# Altium schematic symbol library MyLibraryV2.SchLib: 572 symbols (part 3 of 11)
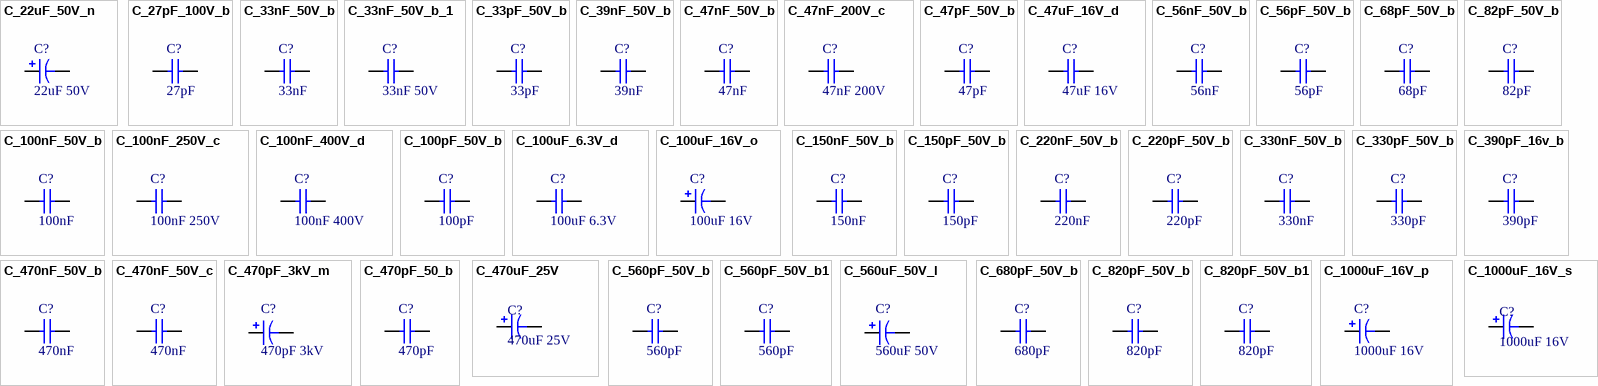
[diagram p18: symbols C_22uF_50V_n to C_1000uF_16V_s]

## C_680pF_50V_b
designator C?, comment 680pF
Capacitor SMD 0805; Manufacturer: Yageo; Manufacturer Part Number: CC0805JRNPO9BN681; Material: Ceramic; Tolerance: 5%; Dielectric: C0G; Voltage Rating: 50V; Temperature Coefficient: 30ppm/°C; Insulation Resistance: 100GR; Mounting Technology: Surface Mount; Case/Package: 0805; Pins: 2; Case Code (Imperial): 0805; Case Code (Metric): 2012; Min Operating Temperature: -55°C; Max Operating Temperature: 125°C; Voltage Rating (DC): 50V; Packaging: Tape and Reel; Package Quantity: 1; Termination: SMD/SMT; Voltage: 50V; Series: CC; Voltage Rating (AC): 50V; Length: 2mm; Width: 0.049inch; Height: 0.6mm; Depth: 1.25mm; Thickness: 0.024inch; Radiation Hardening: No; Reach SVHC Compliant: No; Lead Free: Lead Free; RoHS Compliant: Yes; Halogen Free: 5694HalogenFree; ComponentLink1URL: https://datasheet.ciiva.com/11786/0900766b80d84fbf-11786133.pdf?src-supplier=Rs; ComponentLink1Description: https://datasheet.ciiva.com/11786/0900766b80d84fbf-11786133.pdf?src-supplier=Rs; ComponentLink2URL: https://datasheet.ciiva.com/11587/upy-gp-np0-16v-to-50v-8-11587197.pdf?src-supplier=Avnet; ComponentLink2Description: https://datasheet.ciiva.com/11587/upy-gp-np0-16v-to-50v-8-11587197.pdf?src-supplier=Avnet; ComponentLink3URL: https://datasheet.ciiva.com/8033/1443161-8033958.pdf?src-supplier=Element14; ComponentLink3Description: https://datasheet.ciiva.com/8033/1443161-8033958.pdf?src-supplier=Element14; ComponentLink4URL: https://datasheet.ciiva.com/8033/1443161-8033960.pdf?src-supplier=Element14; ComponentLink4Description: https://datasheet.ciiva.com/8033/1443161-8033960.pdf?src-supplier=Element14; ComponentLink5URL: https://datasheet.ciiva.com/8033/1443161-8033965.pdf?src-supplier=Element14; ComponentLink5Description: https://datasheet.ciiva.com/8033/1443161-8033965.pdf?src-supplier=Element14; ComponentLink6URL: https://datasheet.ciiva.com/145/mlccorderingcode-145146.pdf?src-supplier=Digikey; ComponentLink6Description: https://datasheet.ciiva.com/145/mlccorderingcode-145146.pdf?src-supplier=Digikey; ComponentLink7URL: https://datasheet.ciiva.com/145/mlccorderingcode-145147.pdf?src-supplier=Digikey; ComponentLink7Description: https://datasheet.ciiva.com/145/mlccorderingcode-145147.pdf?src-supplier=Digikey; ComponentLink8URL: https://datasheet.ciiva.com/145/mlccorderingcode-145148.pdf?src-supplier=Digikey; ComponentLink8Description: https://datasheet.ciiva.com/145/mlccorderingcode-145148.pdf?src-supplier=Digikey; ComponentLink9URL: https://datasheet.ciiva.com/15165/getdatasheetpartid-38535-15165163.pdf?src-supplier=Verical; ComponentLink9Description: https://datasheet.ciiva.com/15165/getdatasheetpartid-38535-15165163.pdf?src-supplier=Verical; Supplier 1: Digikey; Supplier Part Number 1: 311-1121-1-ND; RoHS: Yes; Category: Ceramic Capacitors; Stock 1: 38892; Pricing 1: 1=0,13, 10=0,09, 50=0,0536, 100=0,0421, 500=0,03112, 1000=0,02576 (USD); Value: 680pF
footprint C_0805_2013_b (Chip Capacitor; Body 2.0 x 1.3 mm (LxW typ))
pins: 1, 2

## C_820pF_50V_b
designator C?, comment 820pF
Capacitor SMD 0805; Manufacturer: Yageo; Manufacturer Part Number: CC0805JRNPO9BN821; Dielectric Material: Ceramic; Tolerance: 5%; Dielectric: C0G; Voltage Rating: 50V; Insulation Resistance: 100GR; Mounting Technology: Surface Mount; Case/Package: 0805; Case Code (Imperial): 0805; Case Code (Metric): 2012; Weight: 0.000194oz; Min Operating Temperature: -55°C; Max Operating Temperature: 125°C; Voltage Rating (DC): 50V; Packaging: Tape and Reel; Termination: SMD/SMT; Series: CC; Length: 2mm; Width: 1.25mm; Height: 0.6mm; Depth: 1.25mm; Thickness: 0.028inch; Radiation Hardening: No; Lead Free: Lead Free; RoHS Compliant: Yes; Reach SVHC Compliant: Unknown; ComponentLink1URL: https://datasheet.ciiva.com/26862/getdatasheetpartid-137960-26862947.pdf?src-supplier=Verical; ComponentLink1Description: https://datasheet.ciiva.com/26862/getdatasheetpartid-137960-26862947.pdf?src-supplier=Verical; ComponentLink2URL: https://datasheet.ciiva.com/13208/upy-gp-np0-16v-to-50v-8-13208599.pdf?src-supplier=Mouser; ComponentLink2Description: https://datasheet.ciiva.com/13208/upy-gp-np0-16v-to-50v-8-13208599.pdf?src-supplier=Mouser; ComponentLink3URL: https://datasheet.ciiva.com/11586/upy-gp-np0-16v-to-50v-8-11586221.pdf?src-supplier=Avnet; ComponentLink3Description: https://datasheet.ciiva.com/11586/upy-gp-np0-16v-to-50v-8-11586221.pdf?src-supplier=Avnet; ComponentLink4URL: https://datasheet.ciiva.com/8033/1443161-8033962.pdf?src-supplier=Element14; ComponentLink4Description: https://datasheet.ciiva.com/8033/1443161-8033962.pdf?src-supplier=Element14; ComponentLink5URL: https://datasheet.ciiva.com/8033/1443161-8033964.pdf?src-supplier=Element14; ComponentLink5Description: https://datasheet.ciiva.com/8033/1443161-8033964.pdf?src-supplier=Element14; Supplier 1: Digikey; Supplier Part Number 1: 311-3382-1-ND; RoHS: Yes; Category: Ceramic Capacitors; Stock 1: 12492; Pricing 1: 1=0,12, 10=0,083, 50=0,0496, 100=0,039, 500=0,02884, 1000=0,02387 (USD); Value: 820pF
footprint C_0805_2013_b (Chip Capacitor; Body 2.0 x 1.3 mm (LxW typ))
pins: 1, 2

## C_820pF_50V_b1
designator C?, comment 820pF
Capacitor SMD 0805; Manufacturer: Yageo; Manufacturer Part Number: CC0805KRX7R9BB821; Material: Ceramic; Tolerance: 10%; Voltage Rating: 50V; Dielectric: X7R; Mounting Technology: Surface Mount; Case/Package: 0805; Case Code (Imperial): 0805; Case Code (Metric): 2012; Min Operating Temperature: -55°C; Max Operating Temperature: 125°C; Packaging: Tape and Reel; Package Quantity: 1; Voltage Rating (DC): 50V; Termination: SMD/SMT; Series: CC; Capacitor Type: Ceramic; Length: 2mm; Width: 0.049inch; Thickness: 0.024inch; Depth: 1.25mm; Radiation Hardening: No; Lead Free: Lead Free; Halogen Free: Halogen Free; RoHS Compliant: Yes; ComponentLink1URL: https://datasheet.ciiva.com/26862/getdatasheetpartid-403714-26862994.pdf?src-supplier=Verical; ComponentLink1Description: https://datasheet.ciiva.com/26862/getdatasheetpartid-403714-26862994.pdf?src-supplier=Verical; ComponentLink2URL: https://datasheet.ciiva.com/155/mlccorderingcode-155964.pdf?src-supplier=Digikey; ComponentLink2Description: https://datasheet.ciiva.com/155/mlccorderingcode-155964.pdf?src-supplier=Digikey; ComponentLink3URL: https://datasheet.ciiva.com/155/mlccorderingcode-155965.pdf?src-supplier=Digikey; ComponentLink3Description: https://datasheet.ciiva.com/155/mlccorderingcode-155965.pdf?src-supplier=Digikey; ComponentLink4URL: https://datasheet.ciiva.com/155/mlccorderingcode-155966.pdf?src-supplier=Digikey; ComponentLink4Description: https://datasheet.ciiva.com/155/mlccorderingcode-155966.pdf?src-supplier=Digikey; ComponentLink5URL: https://datasheet.ciiva.com/29241/445307-da-01-en-kerko-chip-0805-x7r-820pf-10proz-50vg-29241915.pdf?src-supplier=Conrad; ComponentLink5Description: https://datasheet.ciiva.com/29241/445307-da-01-en-kerko-chip-0805-x7r-820pf-10proz-50vg-29241915.pdf?src-supplier=Conrad; Supplier 1: Digikey; Supplier Part Number 1: 311-1194-1-ND; RoHS: Yes; Category: Ceramic Capacitors; Stock 1: 65043; Pricing 1: 1=0,13, 10=0,087, 50=0,0522, 100=0,0411, 500=0,03034, 1000=0,02512 (USD); Value: 820pF
footprint C_0805_2013_b (Chip Capacitor; Body 2.0 x 1.3 mm (LxW typ))
pins: 1, 2

## C_1000uF_16V_p
designator C?, comment 1000uF 16V
Capacitor SMD Elec F12; Manufacturer: KEMET; Manufacturer Part Number: A768MS108M1CLAE015; Supplier 1: Mouser; Supplier Part Number 1: 80-A768MS108M1CLAE15; RoHS: Yes; Category: Polymer Capacitors; Stock 1: 5839; Pricing 1: 1=0,91, 10=0,572, 50=0,572, 100=0,466, 1000=0,307, 10000=0,275 (USD); Value: 1000uF 16V
footprint C_SMD_F12 (10X11mm SMD)
pins: 1, 2

## C_1000uF_16V_s
designator C?, comment 1000uF 16V
Capacitor SMD Elec G13 (Modificar); Value: 1000uF 16V
footprint C_SMD_G13 (10X13.5mm SMD)
pins: 1, 2

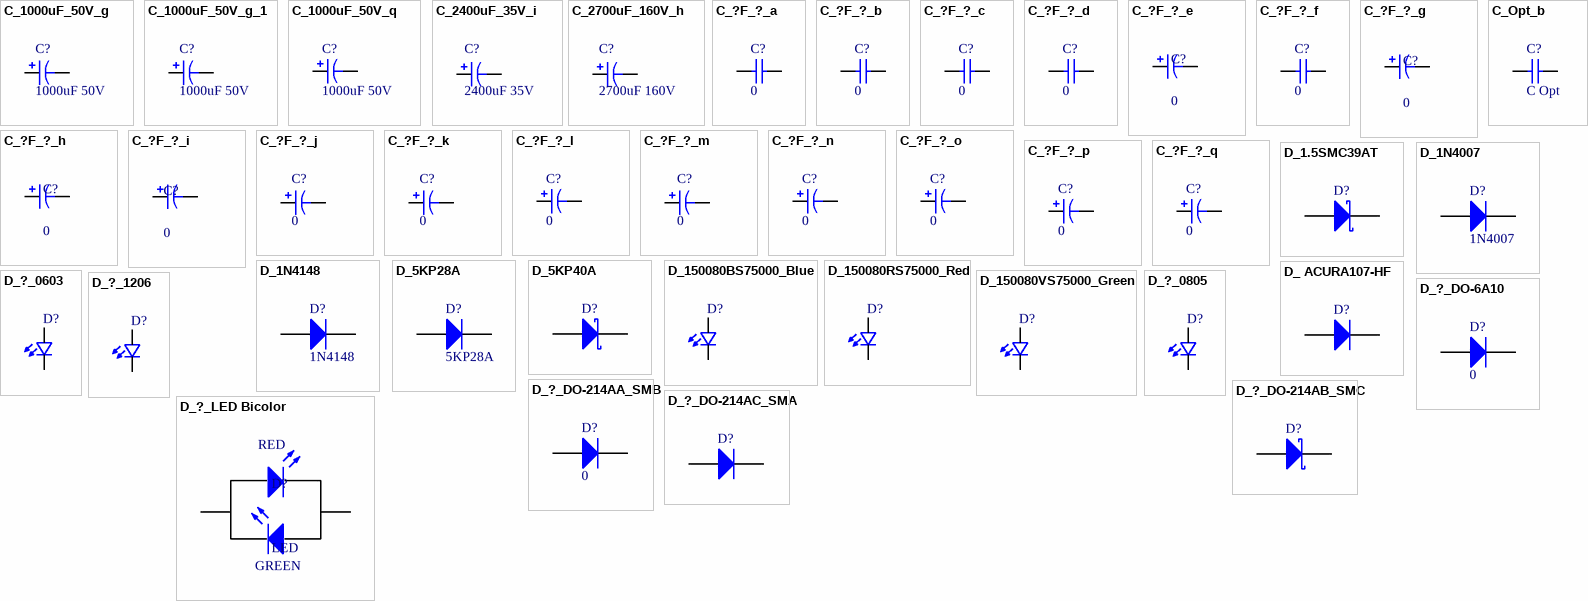
[diagram p2: symbols C_1000uF_50V_g to D_?_LED Bicolor]

## C_1000uF_50V_g
designator C?, comment 1000uF 50V
Capacitor SMD Elec 17x17; Manufacturer: Nichicon; Manufacturer Part Number: UCZ1H102MNJ1MS; Supplier 1: Digikey; Supplier Part Number 1: 493-UCZ1H102MNJ1MSCT-ND; RoHS: No; Category: LDO; Stock 1: 19; Pricing 1: 1=2,6, 10=1,996 (USD); Value: 1000uF 50V
footprint C_SMD_E_17x17
pins: 1, 2

## C_1000uF_50V_g_1
designator C?, comment 1000uF 50V
Capacitor SMD Elec 18x18; Manufacturer: Nichicon; Manufacturer Part Number: UCZ1H102MNJ1MS; Supplier 1: Digikey; Supplier Part Number 1: 493-UCZ1H102MNJ1MSCT-ND; RoHS: No; Category: LDO; Stock 1: 19; Pricing 1: 1=2,6, 10=1,996 (USD); Value: 1000uF 50V
footprint C_SMD_E_18x18
pins: 1, 2

## C_1000uF_50V_q
designator C?, comment 1000uF 50V
Capacitor SMD Elec J16; Manufacturer: Panasonic; Manufacturer Part Number: EEV-FK1H102M; Material: Aluminium; Ripple Current (AC): 1.61A; Tolerance: 20%; ESR (Equivalent Series Resistance): 73mR; Life (Hours): 5000Hour; Leakage Current: 3uA; Dissipation Factor: 10%; Mounting Technology: Surface Mount,PCB; Case/Package: Radial; Pins: 2; Dielectric Material: Aluminium; Min Operating Temperature: -55°C; Max Operating Temperature: 105°C; Packaging: Tape and Reel; Voltage Rating: 50V; Ripple Current: 1.61A; Impedance: 73mR; Voltage Rating (DC): 50V; Package Quantity: 125; Termination: SMD/SMT; Voltage: 50V; Series: FK; Construction: Cylindrical; Voltage Rating (AC): 50V; Diameter: 16mm; Length: 17mm; Width: 1.2mm; Height: 16.5mm; Ratings: AEC-Q200; Radiation Hardening: No; Reach SVHC Compliant: No; Lead Free: Lead Free; RoHS Compliant: Yes; ComponentLink1URL: https://datasheet.ciiva.com/2984/aba0000ce120-2984082.pdf?src-supplier=Avnet; ComponentLink1Description: https://datasheet.ciiva.com/2984/aba0000ce120-2984082.pdf?src-supplier=Avnet; ComponentLink2URL: https://datasheet.ciiva.com/2984/aba0000ce120-2984083.pdf?src-supplier=Avnet; ComponentLink2Description: https://datasheet.ciiva.com/2984/aba0000ce120-2984083.pdf?src-supplier=Avnet; ComponentLink3URL: https://datasheet.ciiva.com/43485/1676921-43485517.pdf?src-supplier=Farnell; ComponentLink3Description: https://datasheet.ciiva.com/43485/1676921-43485517.pdf?src-supplier=Farnell; ComponentLink4URL: https://datasheet.ciiva.com/14608/70258115-14608261.pdf?src-supplier=Allied+Electronics; ComponentLink4Description: https://datasheet.ciiva.com/14608/70258115-14608261.pdf?src-supplier=Allied+Electronics; ComponentLink5URL: https://datasheet.ciiva.com/14597/70258115-14597031.pdf?src-supplier=Allied+Electronics; ComponentLink5Description: https://datasheet.ciiva.com/14597/70258115-14597031.pdf?src-supplier=Allied+Electronics; Supplier 1: Digikey; Supplier Part Number 1: PCE3477CT-ND; RoHS: Yes; Category: Aluminum Electrolytic Capacitors; Stock 1: 103; Pricing 1: 1=1,81, 10=1,388, 50=1,2756 (USD); Value: 1000uF 50V
footprint C_SMD_J16 (16x16.5 SMD)
pins: 1, 2

## C_2400uF_35V_i
designator C?, comment 2400uF 35V
Capacitor SMD Elec 18x18; Manufacturer: Panasonic; Manufacturer Part Number: EEE-TP1V242M; Tolerance: 20%; ESR (Equivalent Series Resistance): 32mR; Mounting Technology: Surface Mount; Case/Package: Radial; Min Operating Temperature: -55°C; Max Operating Temperature: 125°C; Series: TP; Packaging: Cut Tape; Voltage Rating: 35V; Ratings: AEC-Q200; ComponentLink1URL: https://industrial.panasonic.com/cdbs/www-data/pdf/RDE0000/RDE0000C1255.pdf?src-supplier=Digikey; ComponentLink1Description: https://industrial.panasonic.com/cdbs/www-data/pdf/RDE0000/RDE0000C1255.pdf?src-supplier=Digikey; ComponentLink2URL: https://datasheet.octopart.com/EEETP1V242M-Panasonic-datasheet-150469835.pdf?src-supplier=TME; ComponentLink2Description: https://datasheet.octopart.com/EEETP1V242M-Panasonic-datasheet-150469835.pdf?src-supplier=TME; Supplier 1: Mouser; Supplier Part Number 1: 667-EEE-TP1V242M; RoHS: No; Category: Capacitors; Stock 1: 283; Pricing 1: 1=3,12, 10=2,44, 50=2,26, 100=1,67, 1000=1,41, 10000=1,36 (USD); Value: 2400uF 35V
footprint C_SMD_E_18x18
pins: 1, 2

## C_2700uF_160V_h
designator C?, comment 2700uF 160V
Capacitor SMD Elec 35x40; Manufacturer: United Chemi-Con; Manufacturer Part Number: EKMQ161VSN272MA40S; Dielectric Material: Aluminium; Tolerance: 20%; Ripple Current: 3.1A; Test Frequency: 120Hz; Dissipation Factor: 0.15%; Mounting Technology: Through Hole; Case/Package: Radial; Pins: 2; Min Operating Temperature: -25°C; Max Operating Temperature: 105°C; Voltage Rating: 160V; Package Quantity: 200; Packaging: Bulk; Voltage Rating (DC): 160V; Termination: Snap in; Series: KMQ-LU; Diameter: 35mm; Length: 40mm; Height: 40mm; Lead Pitch: 10mm; Height - Seated (Max): 1.575inch; Lead Free: Lead Free; RoHS Compliant: Yes; ComponentLink1URL: http://www.onlinecomponents.com/datasheet/ekmq161vsn272ma40s.aspx?p=12708319&src-supplier=Onlinecomponents.com; ComponentLink1Description: http://www.onlinecomponents.com/datasheet/ekmq161vsn272ma40s.aspx?p=12708319&src-supplier=Onlinecomponents.com; ComponentLink2URL: http://www.mouser.com/ds/2/420/-346755.pdf?src-supplier=Mouser; ComponentLink2Description: http://www.mouser.com/ds/2/420/-346755.pdf?src-supplier=Mouser; ComponentLink3URL: http://www.chemi-con.co.jp/cgi-bin/CAT_DB/SEARCH/cat_db_al.cgi?e=e&j=p&pdfname=kmqlug&src-supplier=Digikey; ComponentLink3Description: http://www.chemi-con.co.jp/cgi-bin/CAT_DB/SEARCH/cat_db_al.cgi?e=e&j=p&pdfname=kmqlug&src-supplier=Digikey; Supplier 1: Digikey; Supplier Part Number 1: 565-2947-ND; RoHS: Yes; Category: Aluminum Electrolytic Capacitors; Stock 1: 492; Pricing 1: 1=5,71, 10=4,908, 200=3,675, 1000=2,96738 (USD); Value: 2700uF 160V
footprint C_SMD_E_35x40-10 (Capacitor, Electrolytic, Radial, Snap-In Pins; Body 35 x 40 mm (Dia.xH typ); Pin Spacing 10 mm (typ))
pins: 1, 2

## C_?F_?_a
designator C?, comment 0
(Generico) Capacitor SMD 0603; Value: 0
footprint C_0603_1608_a (Chip Capacitor; Body 1.6 x 0.8 mm (LxW typ))
pins: 1, 2

## C_?F_?_b
designator C?, comment 0
(Generico) Capacitor SMD 0805; Value: 0
footprint C_0805_2013_b (Chip Capacitor; Body 2.0 x 1.3 mm (LxW typ))
pins: 1, 2

## C_?F_?_c
designator C?, comment 0
(Generico) Capacitor SMD 1206; Value: 0
footprint C_1206_3216_A
pins: 1, 2

## C_?F_?_d
designator C?, comment 0
(Generico) Capacitor SMD 1210; Value: 0
footprint C_1210_3225_A (Chip Capacitor, Body 3.2x2.5mm, IPC High Density)
pins: 1, 2

## C_?F_?_e
designator C?, comment 0
(Generico) Capacitor polarizado; Value: 0
pins: 1, 2

## C_?F_?_f
designator C?, comment 0
(Generico) Capacitor SMD 1411; Value: 0
footprint C_1411_3528_a
pins: 1, 2

## C_?F_?_g
designator C?, comment 0
(Generico) Capacitor SMD Elec 17x17; Value: 0
footprint C_SMD_E_17x17
pins: 1, 2

## C_?F_?_h
designator C?, comment 0
(Generico) Capacitor SMD Elec 35x40; Value: 0
footprint C_SMD_E_35x40-10 (Capacitor, Electrolytic, Radial, Snap-In Pins; Body 35 x 40 mm (Dia.xH typ); Pin Spacing 10 mm (typ))
pins: 1, 2

## C_?F_?_i
designator C?, comment 0
(Generico) Capacitor SMD Elec 18x18; Value: 0
footprint C_SMD_E_18x18
pins: 1, 2

## C_?F_?_j
designator C?, comment 0
(Generico) Capacitor THT Elec  6.3X11; Value: 0
footprint C_THT_E_6.3x11-2.5
pins: 1, 2

## C_?F_?_k
designator C?, comment 0
(Generico) Capacitor THT Elec  5X11; Value: 0
footprint C_THT_E_5X11-2
pins: 1, 2

## C_?F_?_l
designator C?, comment 0
(Generico) Capacitor THT Elec  10x25; Value: 0
footprint C_THT_E_10x25-5
pins: 1, 2

## C_?F_?_m
designator C?, comment 0
(Generico) Capacitor THT Cera 6-7.5; Value: 0
footprint C_THT_CER_6-7.5 (Radial Cap, Thru-Hole; 2 Leads; 0.3 in Pin Spacing)
pins: 1, 2

## C_?F_?_n
designator C?, comment 0
(Generico) Capacitor SMD Elec 6.6x5.5; Value: 0
footprint C_SMD_E_6.6x5.5
pins: 1, 2

## C_?F_?_o
designator C?, comment 0
(Generico) Capacitor SMD Elec F3R; Value: 0
footprint C_SMD_F3R
pins: 1, 2

## C_?F_?_p
designator C?, comment 0
(Generico) Capacitor SMD Elec F12; Value: 0
footprint C_SMD_F12 (10X11mm SMD)
pins: 1, 2

## C_?F_?_q
designator C?, comment 0
(Generico) Capacitor SMD Elec J16; Value: 0
footprint C_SMD_J16 (16x16.5 SMD)
pins: 1, 2

## C_Opt_b
designator C?, comment C Opt
Capacitor SMD 0805 opcional; Value: C Opt
footprint C_0805_2013_b (Chip Capacitor; Body 2.0 x 1.3 mm (LxW typ))
pins: 1, 2

## D_1.5SMC39AT
designator D?, comment 1.5SMC39AT  (value not drawn)
(Modificar) Diode SMD DO-214AB TVS; Value: 1.5SMC39AT
footprint D_DO-214AB_SMC
pins: 1 K, 2 A

## D_1N4007
designator D?, comment 1N4007
(Modificar) Diode SMD DO-214AA; Value: 1N4007
footprint D_DO-214AC_SMA
pins: 1 K, 2 A

## D_1N4148
designator D?, comment 1N4148
Diode SMD SOD-123; Manufacturer: Comchip; Manufacturer Part Number: 1N4148W-HF; Supplier 1: Digikey; Supplier Part Number 1: 641-1N4148W-HFCT-ND; RoHS: Yes; Category: Uncategorized; Stock 1: 78044; Pricing 1: 1=0,17, 10=0,118, 100=0,0639, 500=0,05018, 1000=0,03484 (USD); Value: 1N4148
footprint D_SOD-123 (SOD-123; 2 Leads; Body 2.7 x 1.6 mm, (LxW))
pins: 1 K, 2 A

## D_5KP28A
designator D?, comment 5KP28A
Diode THT DO-6A10 TVS; Manufacturer: Vishay Semiconductors; Manufacturer Part Number: 5KP28A-E3/54; Direction: Unidirectional; Operating Supply Voltage: 28V; Max Surge Current: 600A; Breakdown Voltage: 31.1V; Clamping Voltage: 45.4V; Peak Pulse Power: 5kW; Max Breakdown Voltage: 34.4V; Max Reverse Leakage Current: 2uA; Peak Pulse Current: 110A; ESD Protection: No; Diode Type: ZENER; Number of Unidirectional Channels: 1; Mounting Technology: Through Hole; Case/Package: P; Pins: 600; Contact Plating: Tin,Matte; Min Operating Temperature: -55°C; Max Operating Temperature: 175°C; Package Quantity: 800; Packaging: Tape and Reel; Polarity: Unidirectional; Reverse Standoff Voltage: 28V; Min Breakdown Voltage: 31.1V; Power Dissipation: 5kW; Max Power Dissipation: 5kW; Series: TransZorb®; Clamping Voltage-Max: 45.4V; Power Line Protection: No; Lead Free: Lead Free; RoHS Compliant: Yes; ComponentLink1URL: http://components.arrow.com/part/dataview/42811114S9419545N5680?src-supplier=Arrow+Electronics; ComponentLink1Description: http://components.arrow.com/part/dataview/42811114S9419545N5680?src-supplier=Arrow+Electronics; ComponentLink2URL: http://www.alliedelec.com/m/d/570e2ef97809668344178acafc4efb18.pdf?src-supplier=Allied+Electronics; ComponentLink2Description: http://www.alliedelec.com/m/d/570e2ef97809668344178acafc4efb18.pdf?src-supplier=Allied+Electronics; ComponentLink3URL: http://www.mouser.com/ds/2/427/88308-240274.pdf?src-supplier=Mouser; ComponentLink3Description: http://www.mouser.com/ds/2/427/88308-240274.pdf?src-supplier=Mouser; ComponentLink4URL: http://www.vishay.com/docs/88308/5kp.pdf?src-supplier=Future+Electronics; ComponentLink4Description: http://www.vishay.com/docs/88308/5kp.pdf?src-supplier=Future+Electronics; ComponentLink5URL: https://www.vishay.com/docs/88308/88308.pdf?src-supplier=Digikey; ComponentLink5Description: https://www.vishay.com/docs/88308/88308.pdf?src-supplier=Digikey; ComponentLink6URL: http://www.vishay.com/docs/88308/5kp.pdf?src-supplier=Digikey; ComponentLink6Description: http://www.vishay.com/docs/88308/5kp.pdf?src-supplier=Digikey; ComponentLink7URL: http://www.vishay.com/docs/88308/88308.pdf?src-supplier=Avnet; ComponentLink7Description: http://www.vishay.com/docs/88308/88308.pdf?src-supplier=Avnet; Supplier 1: Mouser; Supplier Part Number 1: 625-5KP28A-E3; RoHS: Yes; Category: TVS Diodes; Stock 1: 2088; Pricing 1: 1=2,4, 10=2,1, 50=2,1, 100=1,68, 1000=1,16, 10000=1,05 (USD); Value: 5KP28A
footprint D_DO-6A10
pins: 1 K, 2 A

## D_5KP40A
designator D?, comment 5KP40A  (value not drawn)
(Modificar) Diode THT DO-6A10 TVS; Value: 5KP40A
footprint D_DO-6A10
pins: 1 K, 2 A

## D_150080BS75000_Blue
designator D?, comment 150080BS75000  (value not drawn)
Diode SMD 0805 LED; Manufacturer: Wurth Electronics; Color: Blue; Lens Color: Colorless; Luminous Intensity: 145mcd; Viewing Angle: 140°; Forward Voltage: 3.2V; Wavelength: 470nm; Lens Style: Clear,Flat,Rectangular; Forward Current: 30mA; Test Current: 20mA; Lens Transparency: Clear; Reverse Voltage: 5V; Power Dissipation: 105mW; Lens Size: 1.25mm; Mounting Technology: Surface Mount; Case/Package: 0805; Case Code (Metric): 2012; Case Code (Imperial): 0805; Min Operating Temperature: -40°C; Max Operating Temperature: 85°C; Series: WL-SMCW; Package Quantity: 1; Packaging: Cut Tape; Dominant Wavelength: 470nm; Max Reverse Voltage (DC): 5V; Length: 2mm; Width: 1.25mm; Height: 0.8mm; RoHS Compliant: Yes; Reach SVHC Compliant: Unknown; Lead Free: Lead Free; ComponentLink1URL: https://datasheet.ciiva.com/22656/1740214-22656954.pdf?src-supplier=Element14; ComponentLink1Description: https://datasheet.ciiva.com/22656/1740214-22656954.pdf?src-supplier=Element14; ComponentLink2URL: https://datasheet.ciiva.com/23843/150080bs75000-23843251.pdf?src-supplier=Newark; ComponentLink2Description: https://datasheet.ciiva.com/23843/150080bs75000-23843251.pdf?src-supplier=Newark; ComponentLink3URL: https://datasheet.ciiva.com/29279/759433-da-01-en-chipled-0805-w-kl-blau-150080bs75000-29279203.pdf?src-supplier=Conrad; ComponentLink3Description: https://datasheet.ciiva.com/29279/759433-da-01-en-chipled-0805-w-kl-blau-150080bs75000-29279203.pdf?src-supplier=Conrad; ComponentLink4URL: https://datasheet.ciiva.com/29562/150080bs75000-29562923.pdf?src-supplier=Digikey; ComponentLink4Description: https://datasheet.ciiva.com/29562/150080bs75000-29562923.pdf?src-supplier=Digikey; ComponentLink5URL: https://datasheet.ciiva.com/29562/150080bs75000-29562922.pdf?src-supplier=Digikey; ComponentLink5Description: https://datasheet.ciiva.com/29562/150080bs75000-29562922.pdf?src-supplier=Digikey; Supplier 1: Digikey; Supplier Part Number 1: 732-4982-1-ND; Manufacturer Part Number: 150080BS75000; RoHS: Yes; Category: LEDs; Stock 1: 208181; Pricing 1: 1=0,19, 50=0,176, 100=0,151, 500=0,131 (USD); Value: 150080BS75000
footprint D_LED_0805_2013 (Chip Capacitor; Body 2.0 x 1.3 mm (LxW typ))
pins: 1 K2, 2 A2

## D_150080RS75000_Red
designator D?, comment 150080RS75000  (value not drawn)
Diode SMD 0805 LED; Manufacturer: Wurth Electronics; Color: Red; Lens Color: Colorless; Luminous Intensity: 150mcd; Viewing Angle: 140°; Forward Voltage: 2V; Wavelength: 625nm; Lens Style: Clear,Flat,Rectangular; Forward Current: 30mA; Test Current: 20mA; Lens Transparency: Clear; Max Reverse Voltage (DC): 5V; Power Dissipation: 72mW; Lens Size: 1.25mm; Mounting Technology: Surface Mount; Case/Package: 0805; Case Code (Metric): 2012; Case Code (Imperial): 0805; Min Operating Temperature: -40°C; Max Operating Temperature: 85°C; Package Quantity: 1; Packaging: Cut Tape; Dominant Wavelength: 625nm; Series: WL-SMCW; Length: 2mm; Width: 1.25mm; Height: 0.8mm; RoHS Compliant: Yes; Reach SVHC Compliant: Unknown; ComponentLink1URL: https://datasheet.ciiva.com/22656/150080rs75000-22656961.pdf?src-supplier=Element14; ComponentLink1Description: https://datasheet.ciiva.com/22656/150080rs75000-22656961.pdf?src-supplier=Element14; ComponentLink2URL: https://datasheet.ciiva.com/29279/759435-da-01-en-chipled-0805-w-kl-rot-150080rs75000-29279032.pdf?src-supplier=Conrad; ComponentLink2Description: https://datasheet.ciiva.com/29279/759435-da-01-en-chipled-0805-w-kl-rot-150080rs75000-29279032.pdf?src-supplier=Conrad; Supplier 1: Digikey; Supplier Part Number 1: 732-4984-1-ND; Manufacturer Part Number: 150080RS75000; RoHS: Yes; Category: LEDs; Stock 1: 53637; Pricing 1: 1=0,19, 50=0,176, 100=0,151, 500=0,131 (USD); Value: 150080RS75000
footprint D_LED_0805_2013 (Chip Capacitor; Body 2.0 x 1.3 mm (LxW typ))
pins: 1 K2, 2 A2

## D_150080VS75000_Green
designator D?, comment 150080VS75000  (value not drawn)
Diode SMD 0805 LED; Manufacturer: Wurth Electronics; Color: Green; Lens Color: Colorless; Luminous Intensity: 40mcd; Forward Current: 30mA; Forward Voltage: 2V; Viewing Angle: 140°; Wavelength: 570nm; Lens Style: Clear,Flat,Rectangular; Test Current: 20mA; Lens Transparency: Clear; Max Reverse Voltage (DC): 5V; Power Dissipation: 72mW; Lens Size: 1.25mm; Mounting Technology: Surface Mount; Case/Package: 0805; Case Code (Metric): 2012; Case Code (Imperial): 0805; Min Operating Temperature: -40°C; Max Operating Temperature: 85°C; Package Quantity: 1; Packaging: Cut Tape; Dominant Wavelength: 570nm; Series: WL-SMCW; Reverse Voltage: 5V; Length: 2mm; Width: 1.25mm; Height: 0.8mm; RoHS Compliant: Yes; Reach SVHC Compliant: Unknown; ComponentLink1URL: https://datasheet.ciiva.com/22656/150080vs75000-22656966.pdf?src-supplier=Element14; ComponentLink1Description: https://datasheet.ciiva.com/22656/150080vs75000-22656966.pdf?src-supplier=Element14; ComponentLink2URL: https://datasheet.ciiva.com/29279/759437-da-01-en-chipled-0805-w-kl-h-gruen-150080vs7500-29279047.pdf?src-supplier=Conrad; ComponentLink2Description: https://datasheet.ciiva.com/29279/759437-da-01-en-chipled-0805-w-kl-h-gruen-150080vs7500-29279047.pdf?src-supplier=Conrad; ComponentLink3URL: https://datasheet.ciiva.com/29563/150080vs75000-29563018.pdf?src-supplier=Digikey; ComponentLink3Description: https://datasheet.ciiva.com/29563/150080vs75000-29563018.pdf?src-supplier=Digikey; Supplier 1: Digikey; Supplier Part Number 1: 732-4986-1-ND; Manufacturer Part Number: 150080VS75000; RoHS: Yes; Category: LEDs; Stock 1: 21097; Pricing 1: 1=0,19, 50=0,176, 100=0,151, 500=0,131 (USD); Value: 150080VS75000
footprint D_LED_0805_2013 (Chip Capacitor; Body 2.0 x 1.3 mm (LxW typ))
pins: 1 K2, 2 A2

## D_ ACURA107-HF
designator D?, comment ACURA107-HF  (value not drawn)
Diode SMD DO-214AC_SMA; Manufacturer: Comchip; Origin: CHINA; Max Reverse Voltage (DC): 1kV; Average Rectified Current: 1A; Reverse Recovery Time: 75ns; Published: 8-Jun-2000; LatestRevisionDate: 17-Jul-2002; LatestRevisionNote: Re-released for DXP Platform.; PackageVersion: Sep-1996; PackageReference: SMC; Publisher: Altium Limited; PackageDescription: DO-214-AB/SMC; 2 C-Bend Leads; Body 7.9 x 5.9 mm, inc. leads (LxW); Code_JEDEC: DO-214-AB; Supplier 1: Digi-Key; Supplier Part Number 1: ES1ME-TPMSCT-ND; Mounting Technology: Surface Mount; Packaging: Cut Tape; Series: Automotive, AEC-Q101; RoHS Compliant: Yes; ComponentLink1URL: http://www.comchiptech.com/admin/files/product/ACURA107-HF%20RevA970010.pdf?src-supplier=Digikey; ComponentLink1Description: http://www.comchiptech.com/admin/files/product/ACURA107-HF%20RevA970010.pdf?src-supplier=Digikey; ComponentLink2URL: http://www.comchiptech.com/cms/UserFiles/ACURA107-HF%20RevA970010.pdf?src-supplier=Digikey; ComponentLink2Description: http://www.comchiptech.com/cms/UserFiles/ACURA107-HF%20RevA970010.pdf?src-supplier=Digikey; Supplier 2: Digikey; Supplier Part Number 2: 641-1884-1-ND; Manufacturer Part Number: ACURA107-HF; RoHS: Yes; Stock 2: 10252; Pricing 2: 1=0,39, 10=0,305, 100=0,1827, 500=0,16918, 1000=0,11504, 2000=0,10591 (USD); Value: ACURA107-HF
footprint D_DO-214AC_SMA
pins: 1 K, 2 A

## D_?_0603
designator D?, comment LED SMD  (value not drawn)
(Generico) Diode SMD 0603 LED; Value: LED SMD
footprint D_LED_0603_1608 (Chip Led SMD; Body 11.6x0.8x0.55mm; 130°; 2÷2.4V; 20mA)
pins: 1 K2, 2 A2

## D_?_0805
designator D?, comment LED SMD  (value not drawn)
(Generico) Diode SMD 0805 LED; Value: LED SMD
footprint D_LED_0805_2013 (Chip Capacitor; Body 2.0 x 1.3 mm (LxW typ))
pins: 1 K2, 2 A2

## D_?_1206
designator D?, comment LED SMD  (value not drawn)
(Generico) Diode SMD 1206 LED; Value: LED SMD
footprint D_LED_1206_3216 (Chip Capacitor; Body 2.0 x 1.3 mm (LxW typ))
pins: 1 K2, 2 A2

## D_?_DO-6A10
designator D?, comment 0
(Generico )Diode SMD DO-6A10; Value: 0
footprint D_DO-6A10
pins: 1 K, 2 A

## D_?_DO-214AA_SMB
designator D?, comment 0
(Generico) Diode SMD DO-214AA_SMB; Value: 0
footprint D_DO-214AA_SMB
pins: 1 K, 2 A

## D_?_DO-214AB_SMC
designator D?, comment 0  (value not drawn)
(Generico) Diode SMD DO-214AB_SMC; Value: 0
footprint D_DO-214AB_SMC
pins: 1 K, 2 A

## D_?_DO-214AC_SMA
designator D?, comment ES1ME  (value not drawn)
(Generico) Diode SMD DO-214AC_SMA; Origin: CHINA; Published: 8-Jun-2000; LatestRevisionDate: 17-Jul-2002; LatestRevisionNote: Re-released for DXP Platform.; PackageVersion: Sep-1996; PackageReference: SMC; Publisher: Altium Limited; PackageDescription: DO-214-AB/SMC; 2 C-Bend Leads; Body 7.9 x 5.9 mm, inc. leads (LxW); Code_JEDEC: DO-214-AB; Supplier 1: Digi-Key; Supplier Part Number 1: ES1ME-TPMSCT-ND; Value: ES1ME
footprint D_DO-214AC_SMA
pins: 1 K, 2 A

## D_?_LED Bicolor
designator D?, comment LED
(Generico) Diode THT LED Bicolor 5mm; Value: LED
footprint D_LED-Bicolor5mm (LED-Bicolor 5mm)
pins: 1 K, 2 A
text: RED; GREEN

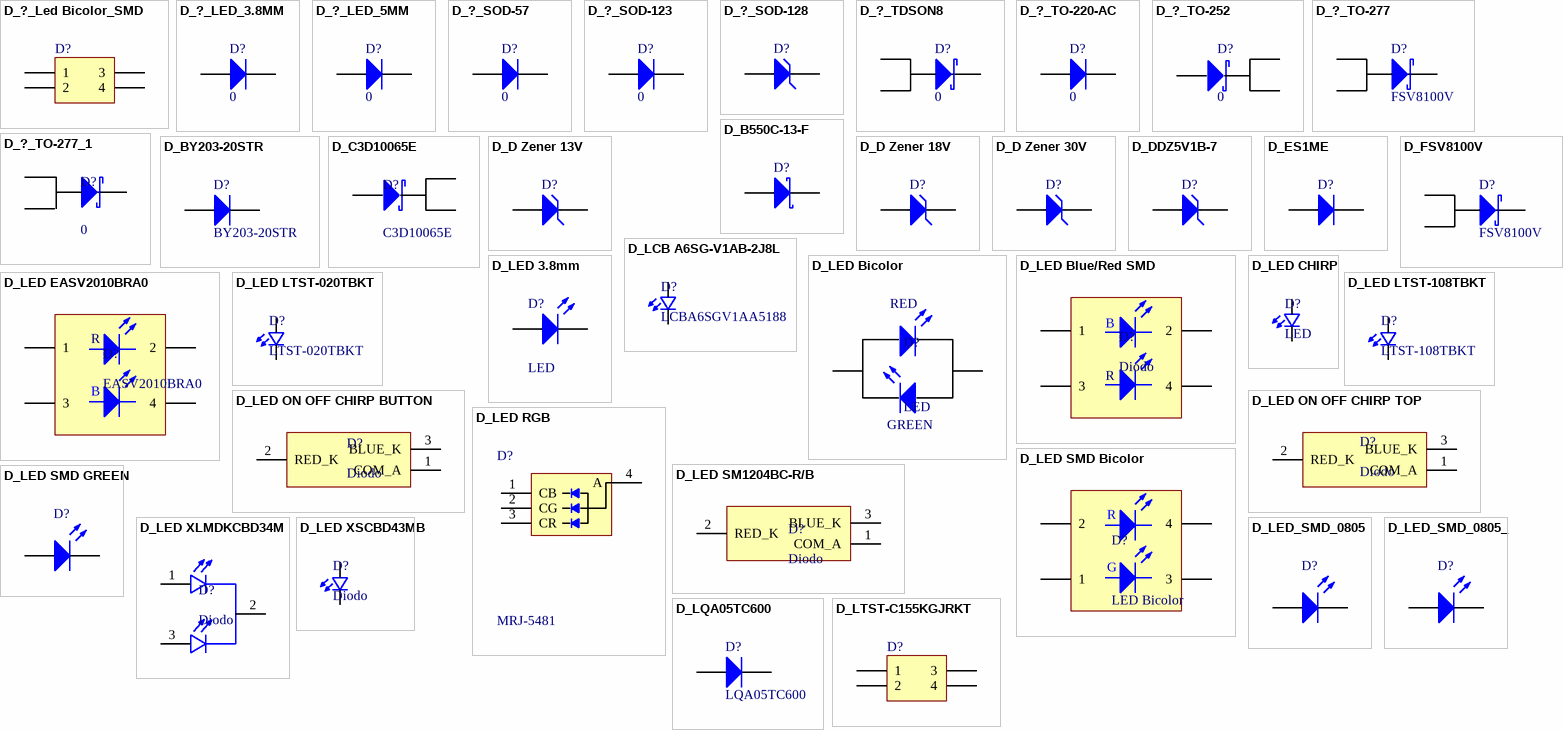
[diagram p3: symbols D_?_Led Bicolor_SMD to D_LTST-C155KGJRKT]

## D_?_Led Bicolor_SMD
designator D?, comment Led Bicolor SMD  (value not drawn)
(Generico) Diode SMD Led Bicolor SMD; Origin: TAIWAN; LatestRevisionDate: 17-Jul-2002; LatestRevisionNote: Re-released for DXP Platform.; Publisher: Altium Limited; Supplier 1: Mouser; Supplier Part Number 1: 859-LTST-C155KGJRKT; Value: Led Bicolor SMD
footprint D_LED_BIC
pins: 1, 2, 3, 4

## D_?_LED_3.8MM
designator D?, comment 0
(Generico) Diode THT LED 3.8MM; Value: 0
footprint D_LED-3.8MM
pins: 1 K, 2 A

## D_?_LED_5MM
designator D?, comment 0
(Generico) Diode THT LED 5MM; Value: 0
footprint D_LED-5MM
pins: 1 K, 2 A

## D_?_SOD-57
designator D?, comment 0
(Generico) Diode SMD SOD-57; Value: 0
footprint D_SOD-57
pins: 1 K, 2 A

## D_?_SOD-123
designator D?, comment 0
(Generico) Diode SMD SOD-123; Value: 0
footprint D_SOD-123 (SOD-123; 2 Leads; Body 2.7 x 1.6 mm, (LxW))
pins: 1 K, 2 A

## D_?_SOD-128
designator D?, comment 0  (value not drawn)
(Generico) Diode SMD SOD-128; Value: 0
footprint D_SOD-128
pins: 1 K, 2 A

## D_?_TDSON8
designator D?, comment 0
(Generico) Diode SMD TDSON8; Value: 0
footprint D_TDSON 8
pins: 1 A, 2 K, 3 A

## D_?_TO-220-AC
designator D?, comment 0
(Generico) Diode SMD TO-220-AC; Value: 0
footprint D_TO-220-2-TO-220AC
pins: 1 K, 2 A

## D_?_TO-252
designator D?, comment 0
(Generico) Diode SMD TO-252; Value: 0
footprint D_TO-252
pins: 1 K "Anode", 2 K "Anode", 3 A "Cathode"

## D_?_TO-277
designator D?, comment FSV8100V
(Generico) Diode SMD TO-277 Zener; Value: FSV8100V
footprint D_TO-277_bigger (Diodo)
pins: 1 A, 2 A, 3 K

## D_?_TO-277_1
designator D?, comment 0
(Generico) Diode SMD TO-277; Value: 0
footprint D_TO-277 (Diodo)
pins: 1 A "Anode", 2 A "Anode", 3 K "Cathode"

## D_B550C-13-F
designator D?, comment B550C-13-F  (value not drawn)
Diode SMD DO-214AB_SMC; Manufacturer: Diodes; Max Reverse Current: 500uA; Forward Current: 5A; Max Repetitive Reverse Voltage (Vrrm): 50V; Peak Non-Repetitive Surge Current: 100A; Polarity: Standard; Forward Voltage: 700mV; Mounting Technology: Surface Mount; Case/Package: SMC; Pins: 2; Weight: 0.007408oz; Contact Plating: Tin,Matte; Min Operating Temperature: -55°C; Max Operating Temperature: 125°C; Package Quantity: 3000; Packaging: Tape and Reel; Current Rating: 5A; Output Current: 5A; Series: -; Average Rectified Current: 5A; Max Forward Surge Current (Ifsm): 100A; Termination: SMD/SMT; Voltage Rating (DC): 50V; Max Reverse Voltage (DC): 50V; Length: 7.11mm; Width: 6.22mm; Height: 2.5mm; Radiation Hardening: No; Lead Free: Lead Free; RoHS Compliant: Yes; Reach SVHC Compliant: No; ComponentLink1URL: https://datasheet.ciiva.com/30479/0900766b8104afce-30479368.pdf?src-supplier=Rs; ComponentLink1Description: https://datasheet.ciiva.com/30479/0900766b8104afce-30479368.pdf?src-supplier=Rs; ComponentLink2URL: https://datasheet.ciiva.com/26949/getdatasheetpartid-307767-26949364.pdf?src-supplier=Verical; ComponentLink2Description: https://datasheet.ciiva.com/26949/getdatasheetpartid-307767-26949364.pdf?src-supplier=Verical; ComponentLink3URL: https://datasheet.ciiva.com/39121/1538953-39121533.pdf?src-supplier=Jameco; ComponentLink3Description: https://datasheet.ciiva.com/39121/1538953-39121533.pdf?src-supplier=Jameco; ComponentLink4URL: https://datasheet.ciiva.com/8303/ds13012-8303115.pdf?src-supplier=Avnet; ComponentLink4Description: https://datasheet.ciiva.com/8303/ds13012-8303115.pdf?src-supplier=Avnet; ComponentLink5URL: https://datasheet.ciiva.com/8303/ds13012-8303191.pdf?src-supplier=Avnet; ComponentLink5Description: https://datasheet.ciiva.com/8303/ds13012-8303191.pdf?src-supplier=Avnet; ComponentLink6URL: https://datasheet.ciiva.com/1177/ds13012-1177531.pdf?src-supplier=Element14; ComponentLink6Description: https://datasheet.ciiva.com/1177/ds13012-1177531.pdf?src-supplier=Element14; Supplier 1: Digikey; Supplier Part Number 1: B550C-FDICT-ND; Manufacturer Part Number: B550C-13-F; RoHS: Yes; Category: Rectifier Diodes; Stock 1: 65197; Pricing 1: 1=0,56, 10=0,476, 100=0,3309, 500=0,25834, 1000=0,20998 (USD); Value: B550C-13-F
footprint D_DO-214AB_SMC
pins: 1 K, 2 A

## D_BY203-20STR
designator D?, comment BY203-20STR
Diode SMD SOD-57; Manufacturer: Vishay Semiconductors; Forward Current: 250mA; Reverse Recovery Time: 300ns; Max Repetitive Reverse Voltage (Vrrm): 2kV; Peak Non-Repetitive Surge Current: 20A; Current Rating: 250A; Mounting Technology: Through Hole; Min Operating Temperature: -55°C; Max Operating Temperature: 150°C; Packaging: Tape and Reel; Radiation Hardening: No; Lead Free: Lead Free; RoHS Compliant: Yes; ComponentLink1URL: https://datasheet.ciiva.com/13949/by20312s-13949594.pdf?src-supplier=Digikey; ComponentLink1Description: https://datasheet.ciiva.com/13949/by20312s-13949594.pdf?src-supplier=Digikey; ComponentLink2URL: https://datasheet.ciiva.com/13949/by20312s-13949596.pdf?src-supplier=Digikey; ComponentLink2Description: https://datasheet.ciiva.com/13949/by20312s-13949596.pdf?src-supplier=Digikey; Supplier 1: Mouser; Supplier Part Number 1: 78-BY203-20S; Manufacturer Part Number: BY203-20STR; RoHS: Yes; Category: Rectifier Diodes; Stock 1: 2718; Pricing 1: 1=0,82, 10=0,709, 50=0,709, 100=0,491, 1000=0,311, 10000=0,272 (USD); Value: BY203-20STR
footprint D_SOD-57_3D
pins: 1 K, 2 A

## D_C3D10065E
designator D?, comment C3D10065E
Diode SMD TO-252 SCHOTTKY; Manufacturer: Cree; Max Reverse Voltage (DC): 650V; Average Rectified Current: 32A; Reverse Recovery Time: 0ns; Mounting Technology: Surface Mount; Case/Package: TO-252-3; Pins: 3; Series: Z-Rec®; RoHS Compliant: Yes; ComponentLink1URL: http://www.mouser.com/ds/2/90/3d10065e-838529.pdf?src-supplier=Mouser; ComponentLink1Description: http://www.mouser.com/ds/2/90/3d10065e-838529.pdf?src-supplier=Mouser; ComponentLink2URL: https://www.wolfspeed.com/downloads/dl/file/id/127/product/90/c3d10065e.pdf?src-supplier=Digikey; ComponentLink2Description: https://www.wolfspeed.com/downloads/dl/file/id/127/product/90/c3d10065e.pdf?src-supplier=Digikey; ComponentLink3URL: https://datasheet.octopart.com/C3D10065E-Wolfspeed-datasheet-62315923.pdf?src-supplier=TME; ComponentLink3Description: https://datasheet.octopart.com/C3D10065E-Wolfspeed-datasheet-62315923.pdf?src-supplier=TME; Supplier 1: Digikey; Supplier Part Number 1: C3D10065E-ND; Manufacturer Part Number: C3D10065E; RoHS: Yes; Category: Schottky Diodes; Stock 1: 821; Pricing 1: 1=6,51, 75=5,20053, 150=4,65307, 525=4,10566, 1050=3,69509, 2025=3,46243 (USD); Value: C3D10065E
footprint D_TO-252
pins: 1 K "Anode", 2 K "Anode", 3 A "Cathode"

## D_D Zener 13V
designator D?, comment 13V  (value not drawn)
(Modificar) Diode SMD SMA Zener; Value: 13V
footprint D_DO-214AC_SMA
pins: 1 K, 2 A

## D_D Zener 18V
designator D?, comment 18V  (value not drawn)
(Modificar) Diode SMD SMA Zener; Value: 18V
footprint D_DO-214AC_SMA
pins: 1 K, 2 A

## D_D Zener 30V
designator D?, comment 30V  (value not drawn)
(Modificar) Diode SMD SMA Zener; Value: 30V
footprint D_DO-214AC_SMA
pins: 1 K, 2 A

## D_DDZ5V1B-7
designator D?, comment 5V1  (value not drawn)
Zener Diode; Manufacturer: Diodes; Manufacturer Part Number: DDZ5V1B-7; Max Power Dissipation: 500mW; Zener Voltage: 5.1V; Max Reverse Leakage Current: 5uA; Tolerance: 3%; Forward Voltage: 900mV; Impedance: 17R; Test Current: 20mA; Output Current: 40mA; Mounting Technology: Surface Mount; Case/Package: SOD-123-2; Pins: 2; Weight: 0.000353oz; Min Operating Temperature: -65°C; Max Operating Temperature: 150°C; Package Quantity: 3000; Packaging: Tape and Reel; Voltage Tolerance: 3%; Power Rating: 500mW; Series: -; Zener Current: 5uA; Max Reverse Current: 5uA; Power Dissipation: 500mW; Working Voltage: 5.1V; Termination: SMD/SMT; Voltage Rating (DC): 5.1V; Length: 3.85mm; Width: 1.7mm; Height: 1.35mm; Radiation Hardening: No; RoHS Compliant: Yes; Lead Free: Lead Free; ComponentLink1URL: http://components.arrow.com/part/dataview/41508659S7354897N2868?src-supplier=Arrow+Electronics; ComponentLink1Description: http://components.arrow.com/part/dataview/41508659S7354897N2868?src-supplier=Arrow+Electronics; ComponentLink2URL: http://www.mouser.com/ds/2/115/ds30407-71565.pdf?src-supplier=Mouser; ComponentLink2Description: http://www.mouser.com/ds/2/115/ds30407-71565.pdf?src-supplier=Mouser; ComponentLink3URL: http://www.diodes.com///datasheets/ds30407.pdf?src-supplier=Avnet; ComponentLink3Description: http://www.diodes.com///datasheets/ds30407.pdf?src-supplier=Avnet; ComponentLink4URL: http://www.diodes.com//datasheets/ds30407.pdf?src-supplier=Avnet; ComponentLink4Description: http://www.diodes.com//datasheets/ds30407.pdf?src-supplier=Avnet; ComponentLink5URL: https://datasheet.octopart.com/DDZ5V1B-7-Diodes-Inc.-datasheet-160462869.pdf?src-supplier=Farnell; ComponentLink5Description: https://datasheet.octopart.com/DDZ5V1B-7-Diodes-Inc.-datasheet-160462869.pdf?src-supplier=Farnell; ComponentLink6URL: http://www.diodes.com/_files/datasheets/ds30407.pdf?src-supplier=Future+Electronics; ComponentLink6Description: http://www.diodes.com/_files/datasheets/ds30407.pdf?src-supplier=Future+Electronics; ComponentLink7URL: https://www.diodes.com/assets/Datasheets/Ds30407.pdf?src-supplier=Digikey; ComponentLink7Description: https://www.diodes.com/assets/Datasheets/Ds30407.pdf?src-supplier=Digikey; ComponentLink8URL: https://datasheet.octopart.com/DDZ5V1B-7-Diodes-Inc.-datasheet-22952792.pdf?src-supplier=Future+Electronics; ComponentLink8Description: https://datasheet.octopart.com/DDZ5V1B-7-Diodes-Inc.-datasheet-22952792.pdf?src-supplier=Future+Electronics; ComponentLink9URL: https://www.verical.com/server-webapp/html/getDatasheet?partID=95733&src-supplier=Verical; ComponentLink9Description: https://www.verical.com/server-webapp/html/getDatasheet?partID=95733&src-supplier=Verical; Supplier 1: Digikey; Supplier Part Number 1: DDZ5V1BDICT-ND; RoHS: Yes; Category: Zener Diodes; Stock 1: 88257; Pricing 1: 1=0,25, 10=0,172, 100=0,084, 500=0,07006, 1000=0,04868 (USD); Supplier 2: Mouser; Supplier Part Number 2: 621-DDZ5V1B-7; Stock 2: 108934; Pricing 2: 1=0,24, 10=0,161, 50=0,161, 100=0,084, 1000=0,048, 10000=0,028 (USD); Value: 5V1
footprint D_SOD-123 (SOD-123; 2 Leads; Body 2.7 x 1.6 mm, (LxW))
pins: 1 K, 2 A

## D_ES1ME
designator D?, comment ES1ME  (value not drawn)
(Modificar) Diode SMD DO-214AC_SMA; Value: ES1ME
footprint D_DO-214AC_SMA
pins: 1 K, 2 A

## D_FSV8100V
designator D?, comment FSV8100V
(Modificar) Diode SMD TO-277 Zener; Value: FSV8100V
footprint D_TO-277_bigger (Diodo)
pins: 1 A, 2 A, 3 K

## D_LCB A6SG-V1AB-2J8L
designator D?, comment LCBA6SGV1AA5188
(Modificar) Diode SMD LED Converted Blue SIDELED; Value: LCBA6SGV1AA5188
footprint D_LCB A6SG-V1AB-2J8L (Diode SMD Led)
pins: 1 A2, 2 K2

## D_LED 3.8mm
designator D?, comment LED
(Modificar) Diode THT LED 3.8mm; Value: LED
footprint D_LED-3.8MM
pins: 1 K, 2 A

## D_LED Bicolor
designator D?, comment LED
(Modificar) Diode THT LED Bicolor 5mm; Value: LED
footprint D_LED-Bicolor5mm (LED-Bicolor 5mm)
pins: 1 A, 2 K
text: RED; GREEN

## D_LED Blue/Red SMD
designator D?, comment Diodo
(Modificar) DIode SMD LED BLUE/RED CLEAR 4SMD R/A; Value: Diodo
footprint D_LED_BIC - 1.5mmx2mm
pins: 1, 2, 3, 4
text: B; R

## D_LED CHIRP
designator D?, comment LED
(Modificar) Diode SMD LED CHIRP; Value: LED
footprint D_LED CHIRP
pins: 1 A2, 2 K2

## D_LED EASV2010BRA0
designator D?, comment EASV2010BRA0
(Modificar) Diode SMD LED BLUE/RED CLEAR 4SMD R/A; Value: EASV2010BRA0
footprint D_EASV2010BRA0
pins: 1, 2, 3, 4
text: R; B

## D_LED LTST-020TBKT
designator D?, comment LTST-020TBKT
(Modificar) Diode SMD Blue LED; Value: LTST-020TBKT
footprint D_LTST-020TBKT
pins: 1 A2, 2 K2

## D_LED LTST-108TBKT
designator D?, comment LTST-108TBKT
(Modificar) Diode SMD LED BLUE CLEAR SMD R/A; Value: LTST-108TBKT
footprint D_LTST-108TBKT
pins: 1 A2, 2 K2

## D_LED ON OFF CHIRP BUTTON
designator D?, comment Diodo
(Modificar) Diode; Value: Diodo
footprint D_LED ON OFF CHIRP BUTTON
pins: 1 COM_A, 2 RED_K, 3 BLUE_K

## D_LED ON OFF CHIRP TOP
designator D?, comment Diodo
(Modificar) Diode; Value: Diodo
footprint D_LED ON OFF CHIRP TOP
pins: 1 COM_A, 2 RED_K, 3 BLUE_K

## D_LED RGB
designator D?, comment MRJ-5481
(Modificar) Diode; Value: MRJ-5481
footprint D_LED RGB
pins: 1 CB, 2 CG, 3 CR, 4 A

## D_LED SM1204BC-R/B
designator D?, comment Diodo
(Modificar) Diode; Value: Diodo
footprint D_EASV2010BRA0
pins: 1 COM_A, 2 RED_K, 3 BLUE_K

## D_LED SMD Bicolor
designator D?, comment LED Bicolor
(Modificar) Diode; Value: LED Bicolor
footprint D_LED_BIC
pins: 1, 2, 3, 4
text: R; G

## D_LED SMD GREEN
designator D?, comment GREEN  (value not drawn)
(Modificar) Diode GREEN; Value: GREEN
footprint D_LED_1206_3216 (Chip Capacitor; Body 2.0 x 1.3 mm (LxW typ))
pins: 1 K, 2 A

## D_LED XLMDKCBD34M
designator D?, comment Diodo
(Modificar) Diode; Value: Diodo
footprint D_XLMDKCBD34M
pins: 1 RED_ANODE, 2 COMMON_CATHODE, 3 BLUE_ANODE

## D_LED XSCBD43MB
designator D?, comment Diodo
(Modificar) Diode; Value: Diodo
footprint D_XSCBD43MB
pins: 1 K2, 2 A2

## D_LED_SMD_0805
designator D?, comment GREEN  (value not drawn)
(Modificar) Diode SMD 0805; Value: GREEN
footprint D_LED_0805_2013 (Chip Capacitor; Body 2.0 x 1.3 mm (LxW typ))
pins: 1 K, 2 A

## D_LED_SMD_0805_
designator D?, comment GREEN  (value not drawn)
Diode SMD 0805; Manufacturer: Wurth Electronics; Manufacturer Part Number: 150080BS75000; Color: Blue; Lens Color: Colorless; Luminous Intensity: 145mcd; Viewing Angle: 140°; Forward Voltage: 3.2V; Wavelength: 470nm; Lens Style: Clear,Flat,Rectangular; Forward Current: 30mA; Test Current: 20mA; Lens Transparency: Clear; Reverse Voltage: 5V; Power Dissipation: 105mW; Lens Size: 1.25mm; Mounting Technology: Surface Mount; Case/Package: 0805; Case Code (Metric): 2012; Case Code (Imperial): 0805; Min Operating Temperature: -40°C; Max Operating Temperature: 85°C; Series: WL-SMCW; Package Quantity: 1; Packaging: Cut Tape; Dominant Wavelength: 470nm; Max Reverse Voltage (DC): 5V; Length: 2mm; Width: 1.25mm; Height: 0.8mm; RoHS Compliant: Yes; Reach SVHC Compliant: Unknown; Lead Free: Lead Free; ComponentLink1URL: https://datasheet.ciiva.com/22656/1740214-22656954.pdf?src-supplier=Element14; ComponentLink1Description: https://datasheet.ciiva.com/22656/1740214-22656954.pdf?src-supplier=Element14; ComponentLink2URL: https://datasheet.ciiva.com/23843/150080bs75000-23843251.pdf?src-supplier=Newark; ComponentLink2Description: https://datasheet.ciiva.com/23843/150080bs75000-23843251.pdf?src-supplier=Newark; ComponentLink3URL: https://datasheet.ciiva.com/29279/759433-da-01-en-chipled-0805-w-kl-blau-150080bs75000-29279203.pdf?src-supplier=Conrad; ComponentLink3Description: https://datasheet.ciiva.com/29279/759433-da-01-en-chipled-0805-w-kl-blau-150080bs75000-29279203.pdf?src-supplier=Conrad; ComponentLink4URL: https://datasheet.ciiva.com/29562/150080bs75000-29562923.pdf?src-supplier=Digikey; ComponentLink4Description: https://datasheet.ciiva.com/29562/150080bs75000-29562923.pdf?src-supplier=Digikey; ComponentLink5URL: https://datasheet.ciiva.com/29562/150080bs75000-29562922.pdf?src-supplier=Digikey; ComponentLink5Description: https://datasheet.ciiva.com/29562/150080bs75000-29562922.pdf?src-supplier=Digikey; Supplier 1: Digikey; Supplier Part Number 1: 732-4982-1-ND; RoHS: Yes; Category: LEDs; Stock 1: 108733; Pricing 1: 1=0,19, 50=0,176, 100=0,151, 500=0,131 (USD); Value: GREEN
footprint D_LED_0805_2013 (Chip Capacitor; Body 2.0 x 1.3 mm (LxW typ))
pins: 1, 2

## D_LQA05TC600
designator D?, comment LQA05TC600
(Modificar) Diodo; ComponentLink1Description: Manufacturer Link; ComponentLink1URL: http://www.irf.com/; Value: LQA05TC600
footprint LQA05TC600
pins: A Anode, C K

## D_LTST-C155KGJRKT
designator D?, comment LTST-C155KGJRKT  (value not drawn)
Diodo SMD Led Bicolor SMD; Manufacturer: Vishay Lite-On; Origin: TAIWAN; Color: Green,Red; Lens Color: Colorless; Forward Current: 30mA; Forward Voltage: 2V; Power Rating: 75mW; Luminous Intensity: 45mcd; Viewing Angle: 130°; Lens Style: Flat,Diffused,Colorless,Rectangular,Clear; Dominant Wavelength: 631nm; Test Current: 20mA; Lens Transparency: Clear; Number of Elements: 2; Wavelength: 639nm; Reverse Voltage: 5V; Lens Size: 2.7mm; LatestRevisionDate: 17-Jul-2002; LatestRevisionNote: Re-released for DXP Platform.; Publisher: Altium Limited; Supplier 1: Mouser; Supplier Part Number 1: 859-LTST-C155KGJRKT; Mounting Technology: Surface Mount; Case/Package: 1210; Pins: 4; Case Code (Metric): 3225; Case Code (Imperial): 1210; Min Operating Temperature: -55°C; Max Operating Temperature: 85°C; Packaging: Tape and Reel; Package Quantity: 3000; Illumination Color: Green,Red; Power Dissipation: 75mW; Number of LEDs: 2; Series: -; Max Power Dissipation: 75mW; Length: 2.7mm; Width: 2.7mm; Height: 1.1mm; Depth: 3.2mm; Radiation Hardening: No; Lead Free: Lead Free; RoHS Compliant: Yes; ComponentLink1URL: https://datasheet.ciiva.com/16366/lite-on20ltst-c155kgjrkt-16366147.pdf?src-supplier=Future+Electronics; ComponentLink1Description: https://datasheet.ciiva.com/16366/lite-on20ltst-c155kgjrkt-16366147.pdf?src-supplier=Future+Electronics; ComponentLink2URL: https://datasheet.ciiva.com/15117/getdatasheetpartid-103641-15117440.pdf?src-supplier=Verical; ComponentLink2Description: https://datasheet.ciiva.com/15117/getdatasheetpartid-103641-15117440.pdf?src-supplier=Verical; ComponentLink3URL: https://datasheet.ciiva.com/11774/0900766b80dc0273-11774195.pdf?src-supplier=Rs; ComponentLink3Description: https://datasheet.ciiva.com/11774/0900766b80dc0273-11774195.pdf?src-supplier=Rs; ComponentLink4URL: https://datasheet.ciiva.com/2110/s-110-ltst-c155kgjrkt-2110800.pdf?src-supplier=Digikey; ComponentLink4Description: https://datasheet.ciiva.com/2110/s-110-ltst-c155kgjrkt-2110800.pdf?src-supplier=Digikey; ComponentLink5URL: https://datasheet.ciiva.com/2110/s-110-ltst-c155kgjrkt-2110801.pdf?src-supplier=Digikey; ComponentLink5Description: https://datasheet.ciiva.com/2110/s-110-ltst-c155kgjrkt-2110801.pdf?src-supplier=Digikey; ComponentLink6URL: https://datasheet.ciiva.com/27051/1260277-27051786.pdf?src-supplier=Jameco; ComponentLink6Description: https://datasheet.ciiva.com/27051/1260277-27051786.pdf?src-supplier=Jameco; Supplier 2: Digikey; Supplier Part Number 2: 160-1409-1-ND; Manufacturer Part Number: LTST-C155KGJRKT; RoHS: Yes; Category: LEDs; Stock 2: 45910; Pricing 2: 1=0,43, 10=0,283, 100=0,1886, 500=0,13042, 1000=0,10868 (USD); Value: LTST-C155KGJRKT
footprint D_LED_BIC
pins: 1, 2, 3, 4

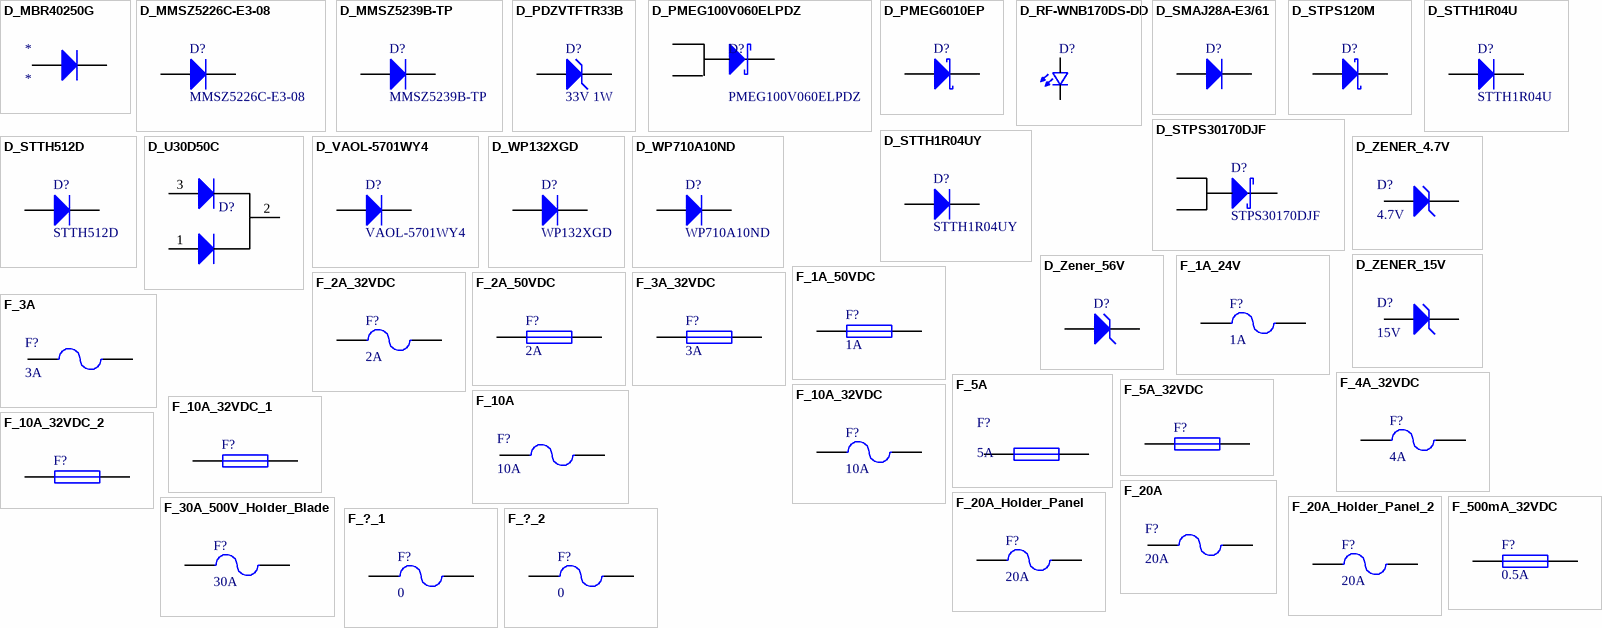
[diagram p4: symbols D_MBR40250G to F_?_2]

## D_MBR40250G
designator *
footprint D_TO-220-2_LQA05TC600
pins: A Anode, C K

## D_MMSZ5226C-E3-08
designator D?, comment MMSZ5226C-E3-08
Diode SMD SOD-123 Zener 3V3; Manufacturer: Vishay Semiconductors; Zener Voltage: 3.3V; Max Power Dissipation: 500mW; Impedance: 28R; Zener Current: 20mA; Voltage Tolerance: 2%; Max Reverse Leakage Current: 25uA; Mounting Technology: Surface Mount; Weight: 0.000363oz; Min Operating Temperature: -55°C; Max Operating Temperature: 150°C; Packaging: Tape and Reel; Package Quantity: 3000; Power Dissipation: 500mW; Tolerance: 2%; Series: Automotive, AEC-Q101; RoHS Compliant: Yes; ComponentLink1URL: https://datasheet.ciiva.com/24021/mmsz5225-24021708.pdf?src-supplier=Mouser; ComponentLink1Description: https://datasheet.ciiva.com/24021/mmsz5225-24021708.pdf?src-supplier=Mouser; Supplier 1: Mouser; Supplier Part Number 1: 78-MMSZ5226C-E3-08; Manufacturer Part Number: MMSZ5226C-E3-08; RoHS: Yes; Category: Zener Diodes; Stock 1: 14347; Pricing 1: 1=0,29, 10=0,198, 50=0,198, 100=0,089, 1000=0,062, 10000=0,041 (USD); Value: MMSZ5226C-E3-08
footprint D_SOD-123 (SOD-123; 2 Leads; Body 2.7 x 1.6 mm, (LxW))
pins: 1 K, 2 A

## D_MMSZ5239B-TP
designator D?, comment MMSZ5239B-TP
Diode SMD SOD-123 Zener 9V1; Manufacturer: MCC; Tolerance: 5%; Zener Voltage: 9.1V; Max Power Dissipation: 500mW; Max Reverse Leakage Current: 3uA; Impedance: 10R; Test Current: 20mA; Mounting Technology: Surface Mount; Pins: 2; Min Operating Temperature: -55°C; Max Operating Temperature: 150°C; Packaging: Tape and Reel; Package Quantity: 3000; Voltage Tolerance: 5%; Power Dissipation: 500mW; Series: -; Lead Free: Lead Free; RoHS Compliant: Yes; ComponentLink1URL: https://datasheet.ciiva.com/890/mmsz5221-mmsz5259sod123-890394.pdf?src-supplier=Digikey; ComponentLink1Description: https://datasheet.ciiva.com/890/mmsz5221-mmsz5259sod123-890394.pdf?src-supplier=Digikey; ComponentLink2URL: https://datasheet.ciiva.com/890/mmsz5221-mmsz5259sod123-890395.pdf?src-supplier=Digikey; ComponentLink2Description: https://datasheet.ciiva.com/890/mmsz5221-mmsz5259sod123-890395.pdf?src-supplier=Digikey; ComponentLink3URL: https://datasheet.ciiva.com/890/mmsz5221-mmsz5259sod123-890396.pdf?src-supplier=Digikey; ComponentLink3Description: https://datasheet.ciiva.com/890/mmsz5221-mmsz5259sod123-890396.pdf?src-supplier=Digikey; Value: MMSZ5239B-TP; Supplier 1: Digikey; Supplier Part Number 1: MMSZ5239B-TPMSCT-ND; Manufacturer Part Number: MMSZ5239B-TP; RoHS: Yes; Category: Zener Diodes; Stock 1: 8679; Pricing 1: 1=0,18, 10=0,128, 100=0,0692, 500=0,05432, 1000=0,03772 (USD)
footprint D_SOD-123 (SOD-123; 2 Leads; Body 2.7 x 1.6 mm, (LxW))
pins: 1 K, 2 A